# EAGLE library part MSP430FR59941IPMR (library Simplex-ICs)
msp430fr5994ipmr
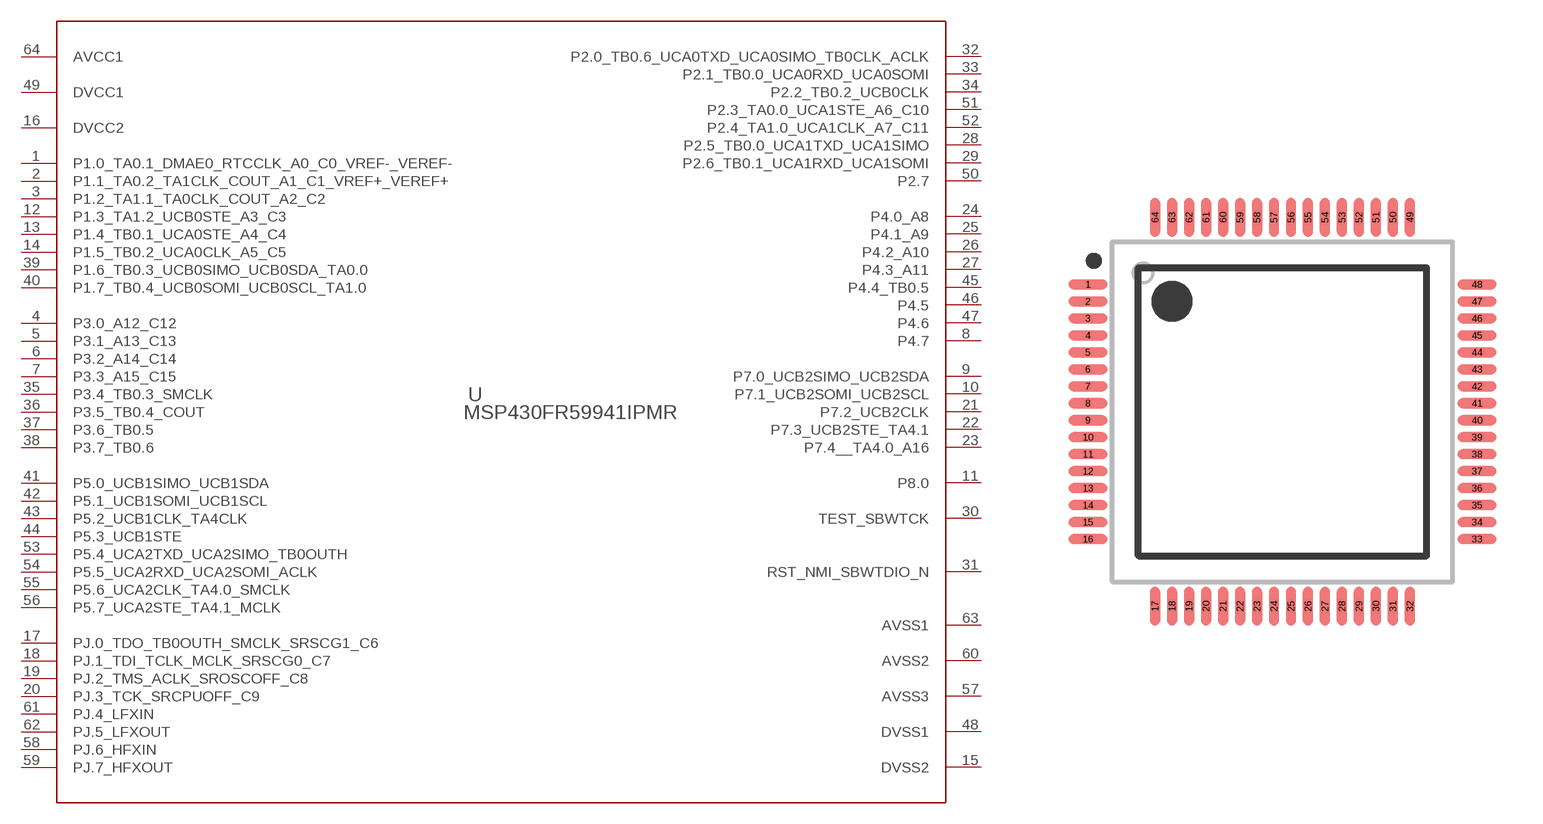
[diagram p17: symbol with the pads of PM0064A_N; footprint PM0064A_N]

Designator prefix U

## MSP430FR59941IPMR (MANUFACTURER: Texas Instruments; PARTNUMBER: MSP430FR5994IPMR; REFDES: RefDes; TYPE: TYPE; VALUE: Value)  [PM0064A_N]
1  P1.0_TA0.1_DMAE0_RTCCLK_A0_C0_VREF-_VEREF-
2  P1.1_TA0.2_TA1CLK_COUT_A1_C1_VREF+_VEREF+
3  P1.2_TA1.1_TA0CLK_COUT_A2_C2
4  P3.0_A12_C12
5  P3.1_A13_C13
6  P3.2_A14_C14
7  P3.3_A15_C15
8  P4.7
9  P7.0_UCB2SIMO_UCB2SDA
10  P7.1_UCB2SOMI_UCB2SCL
11  P8.0
12  P1.3_TA1.2_UCB0STE_A3_C3
13  P1.4_TB0.1_UCA0STE_A4_C4
14  P1.5_TB0.2_UCA0CLK_A5_C5
15  DVSS2  pwr
16  DVCC2  pwr
17  PJ.0_TDO_TB0OUTH_SMCLK_SRSCG1_C6
18  PJ.1_TDI_TCLK_MCLK_SRSCG0_C7
19  PJ.2_TMS_ACLK_SROSCOFF_C8
20  PJ.3_TCK_SRCPUOFF_C9
21  P7.2_UCB2CLK
22  P7.3_UCB2STE_TA4.1
23  P7.4__TA4.0_A16
24  P4.0_A8
25  P4.1_A9
26  P4.2_A10
27  P4.3_A11
28  P2.5_TB0.0_UCA1TXD_UCA1SIMO
29  P2.6_TB0.1_UCA1RXD_UCA1SOMI
30  TEST_SBWTCK  in
31  RST_NMI_SBWTDIO_N
32  P2.0_TB0.6_UCA0TXD_UCA0SIMO_TB0CLK_ACLK
33  P2.1_TB0.0_UCA0RXD_UCA0SOMI
34  P2.2_TB0.2_UCB0CLK
35  P3.4_TB0.3_SMCLK
36  P3.5_TB0.4_COUT
37  P3.6_TB0.5
38  P3.7_TB0.6
39  P1.6_TB0.3_UCB0SIMO_UCB0SDA_TA0.0
40  P1.7_TB0.4_UCB0SOMI_UCB0SCL_TA1.0
41  P5.0_UCB1SIMO_UCB1SDA
42  P5.1_UCB1SOMI_UCB1SCL
43  P5.2_UCB1CLK_TA4CLK
44  P5.3_UCB1STE
45  P4.4_TB0.5
46  P4.5
47  P4.6
48  DVSS1  pwr
49  DVCC1  pwr
50  P2.7
51  P2.3_TA0.0_UCA1STE_A6_C10
52  P2.4_TA1.0_UCA1CLK_A7_C11
53  P5.4_UCA2TXD_UCA2SIMO_TB0OUTH
54  P5.5_UCA2RXD_UCA2SOMI_ACLK
55  P5.6_UCA2CLK_TA4.0_SMCLK
56  P5.7_UCA2STE_TA4.1_MCLK
57  AVSS3  pwr
58  PJ.6_HFXIN
59  PJ.7_HFXOUT
60  AVSS2  pwr
61  PJ.4_LFXIN
62  PJ.5_LFXOUT
63  AVSS1  pwr
64  AVCC1  pwr

## Footprint PM0064A_N (pad centres in mm)
smd 1.15 x 0.3: 1 -5.725,3.75; 2 -5.725,3.25; 3 -5.725,2.75; 4 -5.725,2.25; 5 -5.725,1.75; 6 -5.725,1.25; 7 -5.725,0.75; 8 -5.725,0.25; 9 -5.725,-0.25; 10 -5.725,-0.75; 11 -5.725,-1.25; 12 -5.725,-1.75; 13 -5.725,-2.25; 14 -5.725,-2.75; 15 -5.725,-3.25; 16 -5.725,-3.75; 33 5.725,-3.75; 34 5.725,-3.25; 35 5.725,-2.75; 36 5.725,-2.25; 37 5.725,-1.75; 38 5.725,-1.25; 39 5.725,-0.75; 40 5.725,-0.25; 41 5.725,0.25; 42 5.725,0.75; 43 5.725,1.25; 44 5.725,1.75; 45 5.725,2.25; 46 5.725,2.75; 47 5.725,3.25; 48 5.725,3.75
smd 0.3 x 1.15: 17 -3.75,-5.725; 18 -3.25,-5.725; 19 -2.75,-5.725; 20 -2.25,-5.725; 21 -1.75,-5.725; 22 -1.25,-5.725; 23 -0.75,-5.725; 24 -0.25,-5.725; 25 0.25,-5.725; 26 0.75,-5.725; 27 1.25,-5.725; 28 1.75,-5.725; 29 2.25,-5.725; 30 2.75,-5.725; 31 3.25,-5.725; 32 3.75,-5.725; 49 3.75,5.725; 50 3.25,5.725; 51 2.75,5.725; 52 2.25,5.725; 53 1.75,5.725; 54 1.25,5.725; 55 0.75,5.725; 56 0.25,5.725; 57 -0.25,5.725; 58 -0.75,5.725; 59 -1.25,5.725; 60 -1.75,5.725; 61 -2.25,5.725; 62 -2.75,5.725; 63 -3.25,5.725; 64 -3.75,5.725